# Altium schematic symbol library SOT-89 78L12G-AB3-R.Schlib: 1 symbol
Pins are listed as number, name and electrical type; pins without a type are passive.

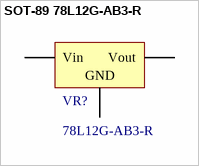
[diagram p0: symbol SOT-89 78L12G-AB3-R]

## SOT-89 78L12G-AB3-R
designator VR?, comment 78L12G-AB3-R
低压差线性稳压(LDO)
footprint SOT-89(SOT-89-3)
pins: 1 Vout, 2 GND, 3 Vin